# Altium footprint library DC motors drivers.PcbLib: 1 footprints
Each footprint in its own frame and in the unit in brackets; x right, y up, seen from the top. Pads: shape width x height; smd on the part's side, far side on the other; paste and mask are expansions set on the pad; w line width, h text height; cw(c..) or ccw(c..) is an arc to the next point about the centre after c.
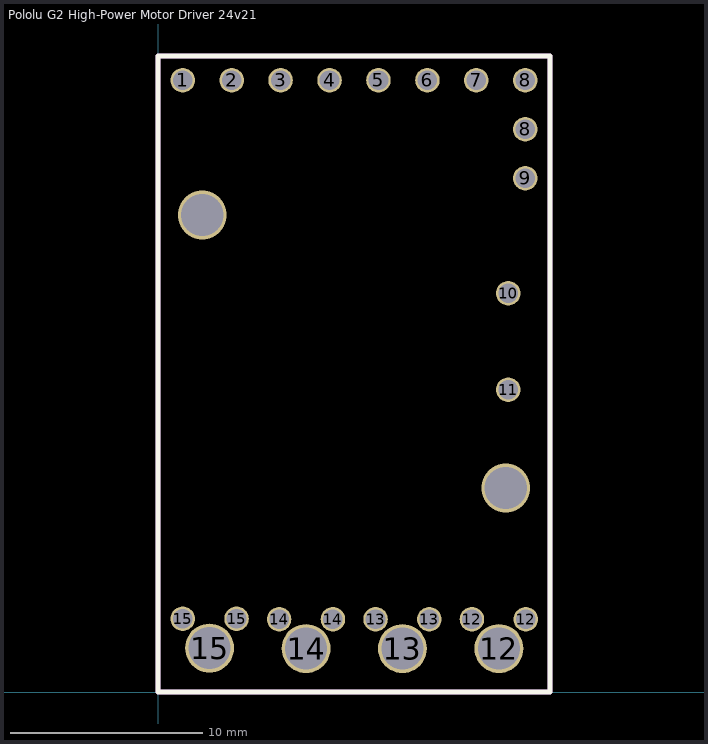
[diagram p0: the footprint, top view; thin cyan lines are the x and y axes]

## Pololu G2 High-Power Motor Driver 24v21 [mil]
pads (24):
  round 50 hole 40: 1(50,1250) 2(150,1250) 3(250,1250) 4(350,1250) 5(450,1250) 6(550,1250) 7(650,1250) 8(750,1150) 8(750,1250) 9(750,1050) 10(715,815) 11(715,618) 12(641,149) 12(751,149) 13(444,149) 13(554,149) 14(247,149) 14(357,149) 15(50,150) 15(160,150)
  round 100 hole 86: 12(696,89) 13(499,89) 14(302,89) 15(105,90)
via 710,417 diameter 100 hole 86
via 90,975 diameter 100 hole 86
Top Overlay:
  lines w10: 0,0 800,0 800,1300 0,1300 0,0
Mechanical 1:
  lines w10: 0,0 800,0 800,1300 0,1300 0,0